# Altium footprint library 6678_CORE.PcbLib: 31 footprints (part 2 of 2)
Each footprint in its own frame and in the unit in brackets; x right, y up, seen from the top. Pads: shape width x height; smd on the part's side, far side on the other; paste and mask are expansions set on the pad; w line width, h text height; cw(c..) or ccw(c..) is an arc to the next point about the centre after c.
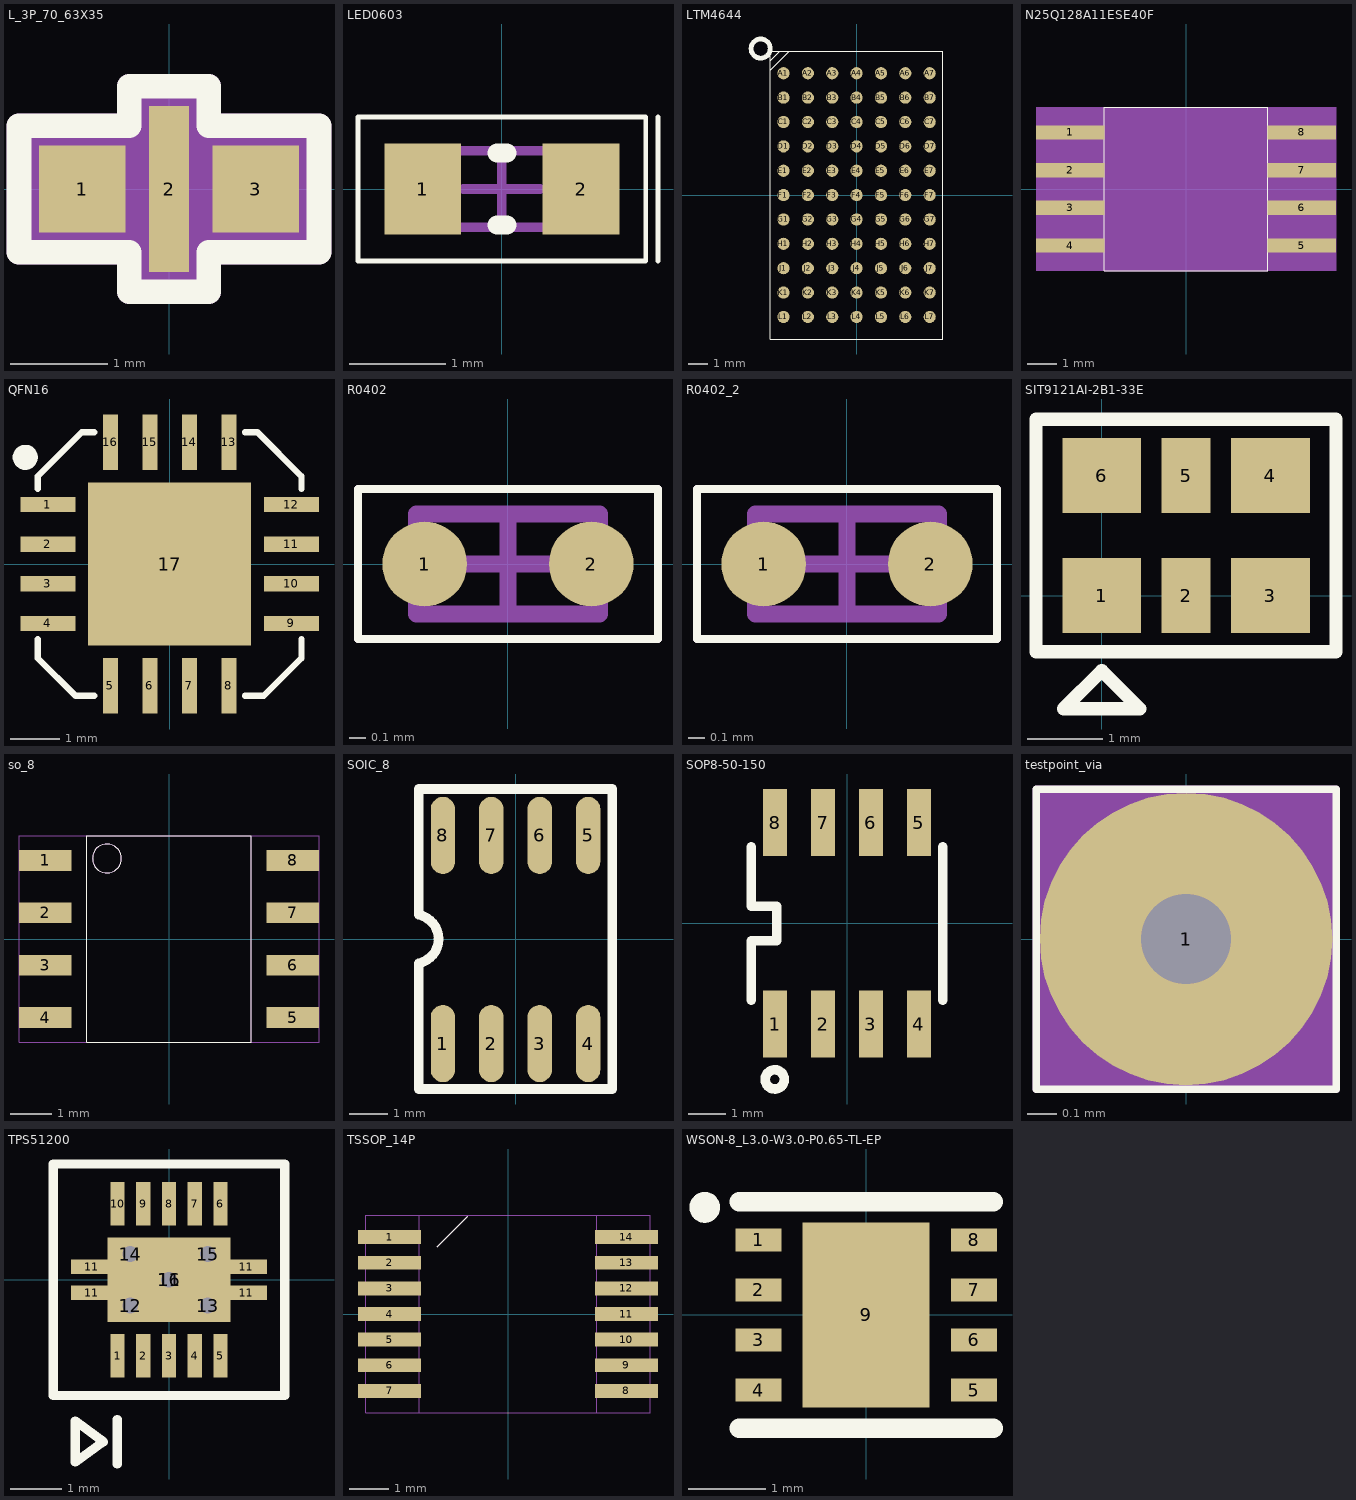
[diagram p1: the footprints below, top view; thin cyan lines are the x and y axes]

## L_3P_70_63X35 [mil] "L_3P_70_63X35"
pads (3):
  rect 35x35 smd: 1(-35.04,0) 3(35.04,0)
  rect 16x67 smd: 2(0,0)
Top Overlay:
  lines w10: -60.54,-25.5 -60.54,25.5 -16,25.5 -16,41.5 16,41.5 16,25.5 60.54,25.5 60.54,-25.5 16,-25.5 16,-41.5 -16,-41.5 -16,-25.5 -60.54,-25.5
Mechanical 5:
  lines w10: -60.54,-25.5 -16,-25.5 -16,-41.5 16,-41.5 16,-25.5 60.54,-25.5 60.54,25.5 16,25.5 16,41.5 -16,41.5 -16,25.5 -60.54,25.5 -60.54,-25.5
  text "B4" at 94.17,-38.34 h25
Mechanical 14:
  text "2" at 0,-11.2 h28
  text "1" at -35.04,-11.2 h28
  text "3" at 35.04,-11.2 h28
Mechanical 16:
  region: -31.5,-15.75 31.5,-15.75 31.5,15.75 -31.5,15.75
  pour cut-out: -16,25.5 -16,41.5 16,41.5 16,25.5 60.54,25.5 60.54,-25.5 16,-25.5 16,-41.5 -16,-41.5 -16,-25.5 -60.54,-25.5 -60.54,25.5
  lines w1: -31.5,-15.75 -31.5,15.75 31.5,15.75 31.5,-15.75 -31.5,-15.75
3D body: height 150, standoff 0, extent -31.5,-15.75 31.5,15.75

## LED0603 [mm]
height 1.2
pads (2):
  rect 0.8x0.95 smd: 1(-0.825,0) 2(0.825,0)
Top Overlay:
  lines w0.05: 1.627,-0.75 1.627,0.75 ; -1.5,-0.75 1.5,-0.75 1.5,0.75 -1.5,0.75 -1.5,-0.75
  lines w0.2: -0.05,-0.375 0.05,-0.375 ; -0.05,0.375 0.05,0.375
Mechanical 13:
  lines w0.1: -0.8,-0.4 0.8,-0.4 0.8,0.4 -0.8,0.4 -0.8,-0.4
Mechanical 15:
  lines w0.1: -0.4,0 0.4,0 ; 0,-0.4 0,0.4
3D body "LED 0603-R.STEP": height 0.47, standoff 0, extent -0.8,-0.401 0.8,0.401

## LTM4644 [mil] "LTM4644"
pads (77):
  round 25 smd: A1(-150,250) A2(-100,250) A3(-50,250) A4(0,250) A5(50,250) A6(100,250) A7(150,250) B1(-150,200) B2(-100,200) B3(-50,200) B4(0,200) B5(50,200) B6(100,200) B7(150,200) C1(-150,150) C2(-100,150) C3(-50,150) C4(0,150) C5(50,150) C6(100,150) C7(150,150) D1(-150,100) D2(-100,100) D3(-50,100) D4(0,100) D5(50,100) D6(100,100) D7(150,100) E1(-150,50) E2(-100,50) E3(-50,50) E4(0,50) E5(50,50) E6(100,50) E7(150,50) F1(-150,0) F2(-100,0) F3(-50,0) F4(0,0) F5(50,0) F6(100,0) F7(150,0) G1(-150,-50) G2(-100,-50) G3(-50,-50) G4(0,-50) G5(50,-50) G6(100,-50) G7(150,-50) H1(-150,-100) H2(-100,-100) H3(-50,-100) H4(0,-100) H5(50,-100) H6(100,-100) H7(150,-100) J1(-150,-150) J2(-100,-150) J3(-50,-150) J4(0,-150) J5(50,-150) J6(100,-150) J7(150,-150) K1(-150,-200) K2(-100,-200) K3(-50,-200) K4(0,-200) K5(50,-200) K6(100,-200) K7(150,-200) L1(-150,-250) L2(-100,-250) L3(-50,-250) L4(0,-250) L5(50,-250) L6(100,-250) L7(150,-250)
Top Overlay:
  lines w1.97: -157.48,295.28 -177.17,275.59 -177.17,255.91 ; -177.17,255.91 -137.8,295.28 -177.17,255.91 ; -177.17,-295.28 -177.17,295.28 177.17,295.28 177.17,-295.28 -177.17,-295.28
  lines w9.84: -216.54,300.59 cw(c-196.85,300.59) -196.85,320.28 cw(c-196.85,300.6) -177.17,300.59 cw(c-196.85,300.59) -196.85,280.91 cw(c-196.85,300.6) -216.54,300.59
Mechanical 17:
  text "LTM4644IY" at 300,190 h25

## N25Q128A11ESE40F [mil] "N25Q128A11ESE40F"
pads (8):
  rect 90.55x18.9 smd: 1(-153.54,75) 2(-153.54,25) 3(-153.54,-25) 4(-153.54,-75) 5(153.54,-75) 6(153.54,-25) 7(153.54,25) 8(153.54,75)
Top Overlay:
  lines w1: -108.27,-108.27 -108.27,108.27 108.27,108.27 108.27,-108.27 -108.27,-108.27
Mechanical 14:
  text "4" at -161.54,-75 h20
  text "1" at -161.54,75 h20
  text "3" at -161.54,-25 h20
  text "7" at 145.54,25 h20
  text "6" at 145.54,-25 h20
  text "2" at -161.54,25 h20
  text "5" at 145.54,-75 h20
  text "8" at 145.54,75 h20
Mechanical 16:
  region: -199.02,-108.27 -199.02,108.27 199.02,108.27 199.02,-108.27
  pour cut-out: -199.02,-108.27 -199.02,108.27 199.02,108.27 199.02,-108.27
  lines w1: -108.27,-108.27 -108.27,108.27 108.27,108.27 108.27,-108.27 -108.27,-108.27
Mechanical 20:
  text ".Designator" at -5.67,0 h5
3D body: height 150, standoff 0, extent -199.02,-108.27 199.02,108.27

## QFN16 [mil] "QFN16"
pads (17):
  rect 44x12 smd: 1(-97,47.24) 2(-97,15.75) 3(-97,-15.75) 4(-97,-47.24) 9(97,-47.24) 10(97,-15.75) 11(97,15.75) 12(97,47.24)
  rect 12x44 smd: 5(-47.24,-97) 6(-15.75,-97) 7(15.75,-97) 8(47.24,-97) 13(47.24,97) 14(15.75,97) 15(-15.75,97) 16(-47.24,97)
  rect 130x130 smd: 17(0,0)
Top Overlay:
  circle w10: c-115,85 r5
  lines w5: -105,-60 -105,-75 -75,-105 -60,-105 ; -105,60 -105,70 -70,105 -60,105 ; 60,-105 75,-105 105,-75 105,-60 ; 60,105 70,105 105,70 105,60
Mechanical 17:
  text ".Designator" at 6,-1.67 h5
  text "MAX8556ETE+" at 13,-100 h20

## R0402 [mil]
height 11.81
pads (2):
  round 20 smd: 1(-19.68,0) 2(19.68,0)
Top Overlay:
  lines w1.97: -35.43,-17.72 35.43,-17.72 35.43,17.72 -35.43,17.72 -35.43,-17.72
Mechanical 13:
  lines w3.94: -21.65,-11.81 -21.65,11.81 21.65,11.81 21.65,-11.81 -21.65,-11.81
Mechanical 15:
  lines w1.97: -35.43,-17.72 35.43,-17.72 35.43,17.72 -35.43,17.72 -35.43,-17.72
  lines w3.94: -9.84,0 9.84,0 ; 0,-9.84 0,9.84
3D body "R0402.STEP": height 13.78, standoff 0, extent -19.68,-9.84 19.69,9.85

## R0402_2 [mil]
pads (2):
  round 20 smd: 1(-19.68,0) 2(19.68,0)
Top Overlay:
  lines w1.97: -35.43,-17.72 35.43,-17.72 35.43,17.72 -35.43,17.72 -35.43,-17.72
Mechanical 13:
  lines w3.94: -21.65,-11.81 -21.65,11.81 21.65,11.81 21.65,-11.81 -21.65,-11.81
Mechanical 15:
  lines w1.97: -35.43,-17.72 35.43,-17.72 35.43,17.72 -35.43,17.72 -35.43,-17.72
  lines w3.94: -9.84,0 9.84,0 ; 0,-9.84 0,9.84
3D body "R0402.STEP": height 13.78, standoff 0, extent -19.68,-9.84 19.68,9.84

## SIT9121AI-2B1-33E [mm]
pads (6):
  rect 1.05x1 smd: 1(0,0) 3(2.25,0) 4(2.25,1.6) 6(0,1.6)
  rect 0.65x1 smd: 2(1.125,0) 5(1.125,1.6)
Top Overlay:
  lines w0.178: -0.875,-0.75 -0.875,2.35 3.125,2.35 3.125,-0.75 -0.875,-0.75 ; -0.508,-1.508 0,-1 0.508,-1.508 -0.508,-1.508

## so_8 [mm] "SO_8"
pads (8):
  rect 1.27x0.5 smd: 1(-3,1.905) 2(-3,0.635) 3(-3,-0.635) 4(-3,-1.905) 5(3,-1.905) 6(3,-0.635) 7(3,0.635) 8(3,1.905)
Top Overlay:
  circle w0.025: c-1.506,1.954 r0.351
  lines w0.025: -2,-2.5 -2,2.5 2,2.5 2,-2.5 -2,-2.5
  text ".Designator" at 2.283,2.272 h0.64
Mechanical 5:
  lines w0.025: -2,-2.5 -2,2.5 2,2.5 2,-2.5 -2,-2.5 ; -1.857,1.954 cw(c-1.506,1.954) -1.506,2.305 cw(c-1.506,1.954) -1.155,1.954 cw(c-1.506,1.954) -1.506,1.603 cw(c-1.506,1.954) -1.857,1.954
  text "U8" at 1.058,1.926 h0.64
Mechanical 14:
  text "6" at 2.797,-0.635 h0.51
  text "1" at -3.203,1.905 h0.51
  text "8" at 2.797,1.905 h0.51
  text "2" at -3.203,0.635 h0.51
  text "5" at 2.797,-1.905 h0.51
  text "4" at -3.203,-1.905 h0.51
  text "3" at -3.203,-0.635 h0.51
  text "7" at 2.797,0.635 h0.51
Mechanical 16:
  lines w0.025: -3.64,-2.5 -3.64,2.5 ; -3.64,-2.5 3.64,-2.5 ; -3.64,-2.5 -3.64,2.5 ; -3.64,-2.5 3.64,-2.5 ; -3.64,2.5 3.64,2.5 ; -3.64,2.5 3.64,2.5 ; 3.64,-2.5 3.64,2.5 ; 3.64,-2.5 3.64,2.5 ; -2,-2.5 -2,2.5 2,2.5 2,-2.5 -2,-2.5

## SOIC_8 [mil] "SOIC_8"
pads (8):
  oval 25.2x79.9 smd: 1(-75,-107.5) 2(-25,-107.5) 3(25,-107.5) 4(75,-107.5) 5(75,107.5) 6(25,107.5) 7(-25,107.5) 8(-75,107.5)
Top Overlay:
  lines w10: -100,-154.5 100,-154.5 100,155.5 -100,155.5 -100,25.5 cw(c-105.01,0.5) -100,-24.5 -100,-154.5
Mechanical 17:
  text ".Designator" at -130,-220 h25

## SOP8-50-150 [mil] "SOP8-50-150"
pads (8):
  rect 25x70 smd: 1(-75,-105) 2(-25,-105) 3(25,-105) 4(75,-105) 5(75,105) 6(25,105) 7(-25,105) 8(-75,105)
Top Overlay:
  circle w10: c-75.23,-162.68 r9.99
  lines w10: -100,-80 -100,-18 -73.09,-18 -73.09,18 -100,18 -100,80 ; 100,-80 100,80
Mechanical 5:
  text "ACS712_SOP8-50-150_ACS712ELCTR-" at -122.62,217.76 h62.99
  text "U83" at 67.67,-184.95 h25
Mechanical 14:
  text "7" at -21,105 h10
  text "1" at -71,-105 h10
  text "2" at -21,-105 h10
  text "6" at 29,105 h10
  text "3" at 29,-105 h10
  text "4" at 79,-105 h10
  text "8" at -71,105 h10
  text "5" at 79,105 h10

## testpoint_via [mil] "TESTPOINT_VIA"
pads (1):
  round 39 / inner round 20 / far side round 39 hole 12: 1(0,0)
Top Overlay:
  lines w1: -20,-20 -20,20 20,20 20,-20 -20,-20
Mechanical 5:
  lines w1: -20,-20 -20,20 20,20 20,-20 -20,-20
  text "TP38" at -117.19,97.15 h25
Mechanical 14:
  text "1" at 0,8 h20
Mechanical 16:
  region: -20,-20 20,-20 20,20 -20,20
  pour cut-out: -20,-20 20,-20 20,20 -20,20
  lines w1: -20,-20 -20,20 20,20 20,-20 -20,-20
Mechanical 17:
  text ".Designator" at 0,40 h25
3D body: height 150, standoff 0, extent -20,-20 20,20

## TPS51200 [mm]
pads (21):
  rect 0.279x0.85 smd: 1(-1,-1.475) 2(-0.5,-1.475) 3(0,-1.475) 4(0.5,-1.475) 5(1,-1.475) 6(1,1.475) 7(0.5,1.475) 8(0,1.475) 9(-0.5,1.475) 10(-1,1.475)
  rect 0.8x0.28 smd: 11(-1.5,-0.25) 11(-1.5,0.25) 11(1.5,-0.25) 11(1.5,0.25)
  oct 0.025x0.025 smd: 11(0,0)
  rect 2.4x1.65 smd: 11(0,0)
  round 0.559 hole 0.305: 12(-0.75,-0.5) 13(0.75,-0.5) 14(-0.75,0.5) 15(0.75,0.5) 16(0,0)
Top Overlay:
  lines w0.178: -1.007,-3.58 -1.007,-2.717 ; -2.25,-2.25 -2.25,2.25 2.25,2.25 2.25,-2.25 -2.25,-2.25 ; -1.821,-3.543 -1.821,-2.743 -1.275,-3.151 -1.821,-3.543
Mechanical 5:
  text "U97" at 1.231,-2.556 h0.64
Mechanical 13:
  text "0.5" at -12.446,-3.683 h0.91
  text "19.69" at -13.741,-6.223 h0.91
  text "3" at -11.659,-8.509 h0.91
  text "118.11" at -14.897,-11.049 h0.91
  text "3" at 7.137,-11.557 h0.91
  text "118.11" at 3.899,-14.097 h0.91
Mechanical 14:
  text "11" at 0.569,0 h0.71
  text "12" at -0.181,-0.5 h0.71
  text "15" at 1.319,0.5 h0.71
  text "16" at 0.569,0 h0.71
  text "14" at -0.181,0.5 h0.71
  text "13" at 1.319,-0.5 h0.71
  text "8" at 0.284,1.5 h0.71
  text "4" at 0.785,-1.5 h0.71
  text "10" at -0.431,1.5 h0.71
  text "6" at 1.284,1.5 h0.71
  text "5" at 1.284,-1.5 h0.71
  text "3" at 0.284,-1.5 h0.71
  text "2" at -0.216,-1.5 h0.71
  text "9" at -0.216,1.5 h0.71
  text "7" at 0.785,1.5 h0.71
  text "1" at -0.716,-1.5 h0.71
Mechanical 17:
  text ".Designator" at 0.152,0.042 h0.13

## TSSOP_14P [mm] "TSSOP_14P"
pads (14):
  rect 1.6x0.35 smd: 1(-3,1.95) 2(-3,1.3) 3(-3,0.65) 4(-3,0) 5(-3,-0.65) 6(-3,-1.3) 7(-3,-1.95) 8(3,-1.95) 9(3,-1.3) 10(3,-0.65) 11(3,0) 12(3,0.65) 13(3,1.3) 14(3,1.95)
Top Overlay:
  lines w0.025: -1.792,1.708 -1.789,1.708 -1.016,2.481
Mechanical 5:
  lines w0.025: -1.792,1.708 -1.789,1.708 -1.016,2.481
  text "U9" at -0.381,-3.492 h0.64
Mechanical 14:
  text "13" at 2.594,1.3 h0.51
  text "10" at 2.594,-0.65 h0.51
  text "1" at -3.203,1.95 h0.51
  text "4" at -3.203,0 h0.51
  text "7" at -3.203,-1.95 h0.51
  text "9" at 2.797,-1.3 h0.51
  text "11" at 2.594,0 h0.51
  text "12" at 2.594,0.65 h0.51
  text "2" at -3.203,1.3 h0.51
  text "8" at 2.797,-1.95 h0.51
  text "3" at -3.203,0.65 h0.51
  text "6" at -3.203,-1.3 h0.51
  text "5" at -3.203,-0.65 h0.51
  text "14" at 2.594,1.95 h0.51
Mechanical 16:
  lines w0.025: -3.605,-2.5 -3.605,2.5 ; -3.605,-2.5 3.605,-2.5 ; -3.605,-2.5 -3.605,2.5 ; -3.605,-2.5 3.605,-2.5 ; -3.605,2.5 3.605,2.5 ; -3.605,2.5 3.605,2.5 ; 3.605,-2.5 3.605,2.5 ; 3.605,-2.5 3.605,2.5 ; -2.25,-2.5 -2.25,2.5 2.25,2.5 2.25,-2.5 -2.25,-2.5
Mechanical 17:
  text ".Designator" at -1.016,0 h1.27

## WSON-8_L3.0-W3.0-P0.65-TL-EP [mm]
pads (9):
  rect 0.6x0.3 smd: 1(-1.4,0.975) 2(-1.4,0.325) 3(-1.4,-0.325) 4(-1.4,-0.975) 5(1.4,-0.975) 6(1.4,-0.325) 7(1.4,0.325) 8(1.4,0.975)
  rect 1.65x2.4 smd: 9(0,0)
Top Overlay:
  lines w0.2: -1.999,1.397 cw(c-2.099,1.398) -1.999,1.4
  lines w0.254: -1.651,-1.473 1.649,-1.473 ; -1.649,1.473 1.651,1.473